# EAGLE library part ISO1050 (library IntegratedLib)
Transciver CAN galvanicamente isolado (SOIC-16)
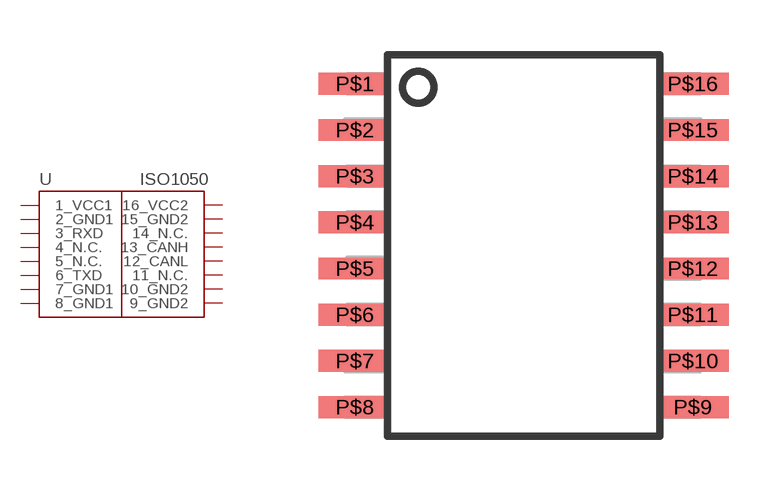
[diagram p31: symbol with the pads of SOIC-16; footprint SOIC-16]

Designator prefix U

## ISO1050 (FABRICANTE: TEXAS INSTRUMENTS; PARTNUMBER: ISO1050DW; TIPO: CIRCUITO INTEGRADO)  [SOIC-16]
P$1  1_VCC1
P$2  2_GND1
P$3  3_RXD
P$4  4_N.C.
P$5  5_N.C.
P$6  6_TXD
P$7  7_GND1
P$8  8_GND1
P$9  9_GND2
P$10  10_GND2
P$11  11_N.C.
P$12  12_CANL
P$13  13_CANH
P$14  14_N.C.
P$15  15_GND2
P$16  16_VCC2

## Footprint SOIC-16 (pad centres in mm)
smd 2 x 0.6: P$1 -4.65,4.445; P$2 -4.65,3.175; P$3 -4.65,1.905; P$4 -4.65,0.635; P$5 -4.65,-0.635; P$6 -4.65,-1.905; P$7 -4.65,-3.175; P$8 -4.65,-4.445; P$9 4.65,-4.445; P$10 4.65,-3.175; P$11 4.65,-1.905; P$12 4.65,-0.635; P$13 4.65,0.635; P$14 4.65,1.905; P$15 4.65,3.175; P$16 4.65,4.445